# Altium schematic symbol library Mezeq_PCB_and_Mechanical.SchLib: 6 symbols
Pins are listed as number, name and electrical type; pins without a type are passive.

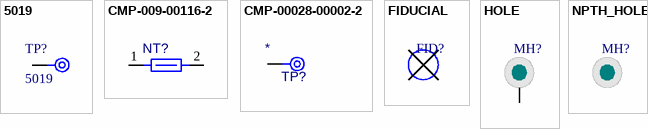
[diagram p0: symbols 5019 to NPTH_HOLE]

## 5019
designator TP?
PC Test Point, Miniature Phosphor Bronze Silver Plating Surface Mount Mounting Type; Manufacturer 1: Keystone Electronics; Manufacturer Part Number 1: 5019; Supplier 1: Digikey; Supplier Part Number 1: 36-5019CT-ND
footprint KEYSTONE_5019 (PC TEST POINT MINIATURE)
pins: 1 TP

## CMP-009-00116-2
designator NT?, comment Net Tie 10x8mil  (value not drawn)  (net tie, no BOM)
Min Operating Temperature: -55°C; Pins: 2; Max Operating Temperature: 155°C; Component Type: Resistors; Manufacturer 1: *; Manufacturer Part Number 1: *; Supplier 1: *; Supplier Part Number 1: *
footprint New footprint 1
pins: 1, 2

## CMP-00028-00002-2
designator TP?  (no BOM)
Pad testpoint
footprint TP1MM (Testpoint, round, d=1mm)
pins: 1 TP

## FIDUCIAL
designator FID?  (value not drawn)  (no BOM)
Fiducial point.
footprint FIDUCIAL (1mm fiducial point with)
pins: 1

## HOLE
designator MH?  (value not drawn)  (no BOM)
Mounting Hole
footprint HOLE (4.2 MM PTH HOLE)
pins: 1

## NPTH_HOLE
designator MH?, comment NPTH HOLE  (value not drawn)  (no BOM)
NPTH Mounting Hole
footprint NPTH_HOLE (4.2 MM NPTH HOLE)